# Altium footprint library UWRT.PcbLib: 2 footprints
Each footprint in its own frame and in the unit in brackets; x right, y up, seen from the top. Pads: shape width x height; smd on the part's side, far side on the other; paste and mask are expansions set on the pad; w line width, h text height; cw(c..) or ccw(c..) is an arc to the next point about the centre after c.
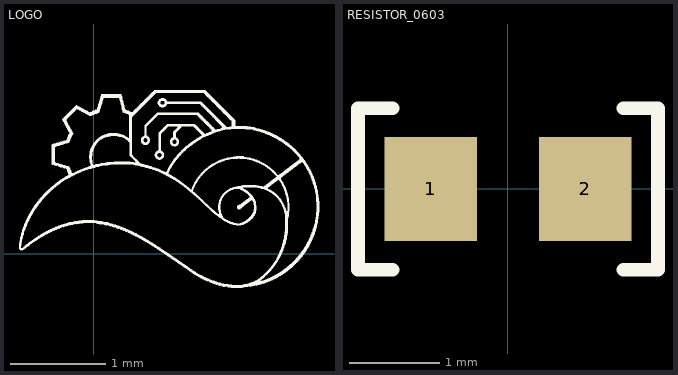
[diagram p0: the footprints below, top view; thin cyan lines are the x and y axes]

## LOGO [mil] "UWRT LOGO"
Top Overlay:
  drawing of 1 lines, arcs and shapes, not listed

## RESISTOR_0603 [mil] "Resistor 0603"
pads (2):
  rect 40x45 smd: 1(-33.5,0) 2(33.5,0)
Top Overlay:
  lines w6: -50,-35 -65,-35 -65,35 -50,35 ; 50,-35 65,-35 65,35 50,35
3D body "User Library-res0603-1.step": height 15.75, standoff 0, extent -31.49,-15.74 31.5,15.75